# Altium footprint library BAT_BU2032SM-BT-GTR.PcbLib: 1 footprints
Each footprint in its own frame and in the unit in brackets; x right, y up, seen from the top. Pads: shape width x height; smd on the part's side, far side on the other; paste and mask are expansions set on the pad; w line width, h text height; cw(c..) or ccw(c..) is an arc to the next point about the centre after c.
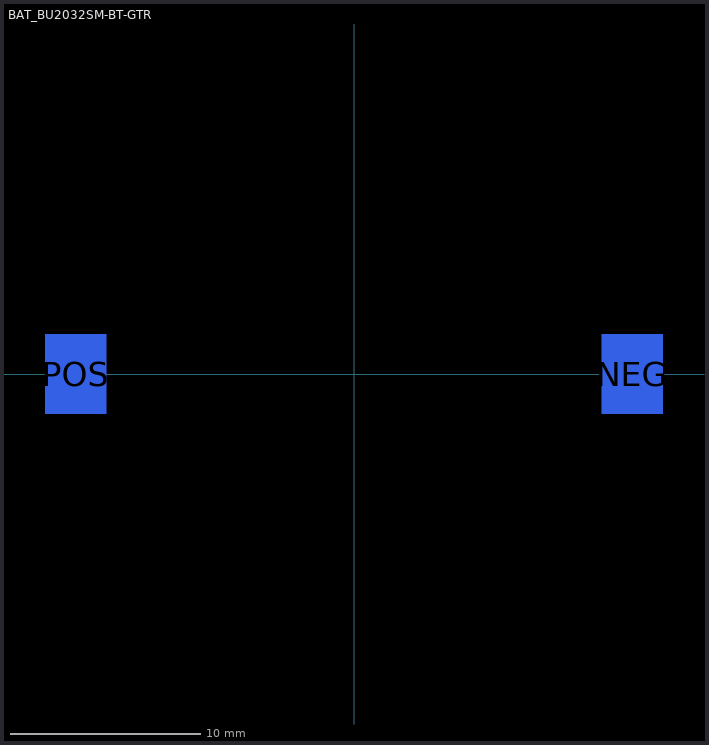
[diagram p0: the footprint, top view; thin cyan lines are the x and y axes]

## BAT_BU2032SM-BT-GTR [mm]
height 5.2
pads (2):
  rect 3.2x4.2 smd far side: NEG(14.65,0) POS(-14.65,0)
Bottom Overlay:
  lines w0.05: -16.5,-8.25 -16.5,8.25 16.5,8.25 16.5,-8.25 -16.5,-8.25
  lines w0.127: -15,5.5 -13,5.5 ; -14.3,-2.42 -14.3,-3.5 ; -14.3,2.42 -14.3,3.5 ; -14,4.5 -14,6.5 ; 13,5.5 14.5,5.5 ; 14.3,-2.42 14.3,-3.5 ; 14.3,2.42 14.3,3.5 ; -14.3,-3.5 -10.645,-3.5 ; -14.3,-3.5 -10.645,-3.5 ; -14.3,-3.5 -14.3,3.5 ; -14.3,3.5 -10.645,3.5 ; -14.3,3.5 -10.645,3.5 ; -10.645,-3.5 -10.581,-3.681 ; -10.645,-3.5 -10.581,-3.681 ; -10.645,3.5 -10.581,3.681 ; -10.645,3.5 -10.581,3.681 ; -10.581,-3.681 -10.458,-4.024 ; -10.581,-3.681 -10.458,-4.024 ; -10.581,3.681 -10.458,4.024 ; -10.581,3.681 -10.458,4.024 ; -10.458,-4.024 -10.35,-4.287 ; -10.458,-4.024 -10.35,-4.287 ; -10.458,4.024 -10.35,4.287 ; -10.458,4.024 -10.35,4.287 ; -10.35,-4.287 -10.242,-4.538 ; -10.35,-4.287 -10.242,-4.538 ; -10.35,4.287 -10.242,4.538 ; -10.35,4.287 -10.242,4.538 ; -10.242,-4.538 -10.058,-4.937 ; -10.242,-4.538 -10.058,-4.937 ; -10.242,4.538 -10.058,4.937 ; -10.242,4.538 -10.058,4.937 ; -10.058,-4.937 -9.88,-5.282 ; -10.058,-4.937 -9.88,-5.282 ; -10.058,4.937 -9.88,5.282 ; -10.058,4.937 -9.88,5.282 ; -9.88,-5.282 -9.7,-5.594 ; -9.88,-5.282 -9.7,-5.594 ; -9.88,5.282 -9.7,5.594 ; -9.88,5.282 -9.7,5.594 ; -9.7,-5.594 -9.524,-5.892 ; -9.7,-5.594 -9.524,-5.892 ; -9.7,5.594 -9.524,5.892 ; -9.7,5.594 -9.524,5.892 ; -9.524,-5.892 -9.168,-6.436 ; -9.524,-5.892 -9.168,-6.436 ; -9.524,5.892 -9.168,6.436 ; -9.524,5.892 -9.168,6.436 ; -9.168,-6.436 -8.897,-6.809 ; -9.168,-6.436 -8.897,-6.809 ; -9.168,6.436 -8.897,6.809 ; -9.168,6.436 -8.897,6.809 ; -8.897,-6.809 -8.516,-7.277 ; -8.897,-6.809 -8.516,-7.277 ; -8.897,6.809 -8.516,7.277 ; -8.897,6.809 -8.516,7.277 ; -8.516,-7.277 -8.022,-7.82 ; -8.516,-7.277 -8.022,-7.82 ; -8.516,7.277 -8.022,7.82 ; -8.516,7.277 -8.022,7.82 ; -8.022,-7.82 -7.838,-8 -8.022,-7.82 ; -8.022,7.82 -7.838,8 -8.022,7.82 ; 8.022,-7.82 8.516,-7.277 ; 8.022,-7.82 7.838,-8 8.022,-7.82 ; 8.022,-7.82 8.516,-7.277 ; 8.022,7.82 7.838,8 8.022,7.82 ; 8.022,7.82 8.516,7.277 ; 8.022,7.82 8.516,7.277 ; 8.516,-7.277 8.897,-6.809 ; 8.516,-7.277 8.897,-6.809 ; 8.516,7.277 8.897,6.809 ; 8.516,7.277 8.897,6.809 ; 8.897,-6.809 9.168,-6.436 ; 8.897,-6.809 9.168,-6.436 ; 8.897,6.809 9.168,6.436 ; 8.897,6.809 9.168,6.436 ; 9.168,-6.436 9.524,-5.892 ; 9.168,-6.436 9.524,-5.892 ; 9.168,6.436 9.524,5.892 ; 9.168,6.436 9.524,5.892 ; 9.524,-5.892 9.7,-5.594 ; 9.524,-5.892 9.7,-5.594 ; 9.524,5.892 9.7,5.594 ; 9.524,5.892 9.7,5.594 ; 9.7,-5.594 9.88,-5.282 ; 9.7,-5.594 9.88,-5.282 ; 9.7,5.594 9.88,5.282 ; 9.7,5.594 9.88,5.282 ; 9.88,-5.282 10.058,-4.937 ; 9.88,-5.282 10.058,-4.937 ; 9.88,5.282 10.058,4.937 ; 9.88,5.282 10.058,4.937 ; 10.058,-4.937 10.242,-4.538 ; 10.058,-4.937 10.242,-4.538 ; 10.058,4.937 10.242,4.538 ; 10.058,4.937 10.242,4.538 ; 10.242,-4.538 10.35,-4.287 ; 10.242,-4.538 10.35,-4.287 ; 10.242,4.538 10.35,4.287 ; 10.242,4.538 10.35,4.287 ; 10.35,-4.287 10.458,-4.024 ; 10.35,-4.287 10.458,-4.024 ; 10.35,4.287 10.458,4.024 ; 10.35,4.287 10.458,4.024 ; 10.458,-4.024 10.581,-3.681 ; 10.458,-4.024 10.581,-3.681 ; 10.458,4.024 10.581,3.681 ; 10.458,4.024 10.581,3.681 ; 10.581,-3.681 10.645,-3.5 ; 10.581,-3.681 10.645,-3.5 ; 10.581,3.681 10.645,3.5 ; 10.581,3.681 10.645,3.5 ; 10.645,-3.5 14.3,-3.5 ; 10.645,-3.5 14.3,-3.5 ; 10.645,3.5 14.3,3.5 ; 10.645,3.5 14.3,3.5 ; 14.3,-3.5 14.3,3.5 ; -7.835,-8 7.835,-8 -7.835,-8 ; -7.835,8 7.835,8 -7.835,8
3D body "step_temp.STEP": height 5.2, standoff 0, extent -15.803,-8 16.057,8